# Altium footprint library 1x_SolderPad_SMD.PcbLib: 1 footprints
Each footprint in its own frame and in the unit in brackets; x right, y up, seen from the top. Pads: shape width x height; smd on the part's side, far side on the other; paste and mask are expansions set on the pad; w line width, h text height; cw(c..) or ccw(c..) is an arc to the next point about the centre after c.
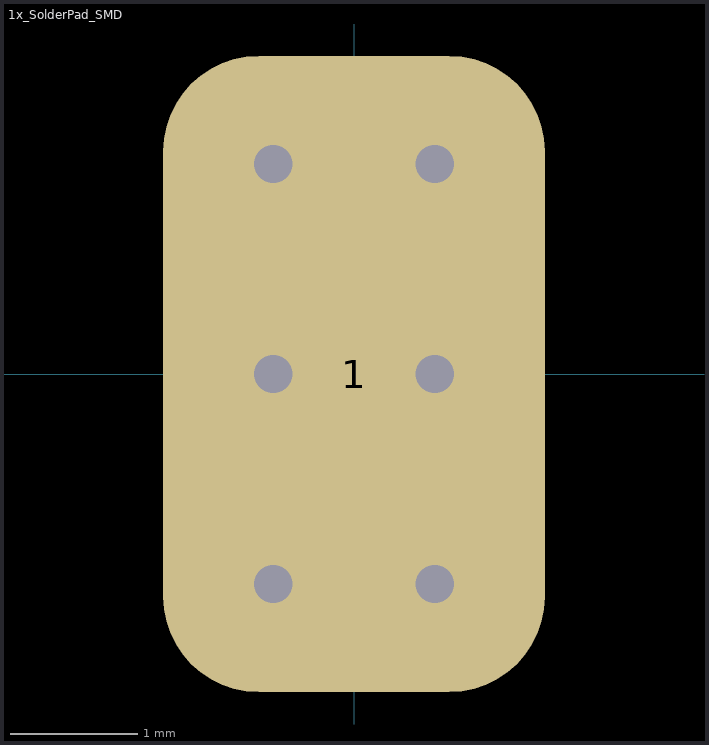
[diagram p0: the footprint, top view; thin cyan lines are the x and y axes]

## 1x_SolderPad_SMD [mm]
pads (1):
  rrect50% 3x5 smd: 1(0,0)
via 0.635,-1.651 diameter 0.6 hole 0.3
via -0.635,-1.651 diameter 0.6 hole 0.3
via 0.635,0 diameter 0.6 hole 0.3
via -0.635,0 diameter 0.6 hole 0.3
via 0.635,1.651 diameter 0.6 hole 0.3
via -0.635,1.651 diameter 0.6 hole 0.3